# EAGLE library part STM32L010K8T6 (library Bauteile)
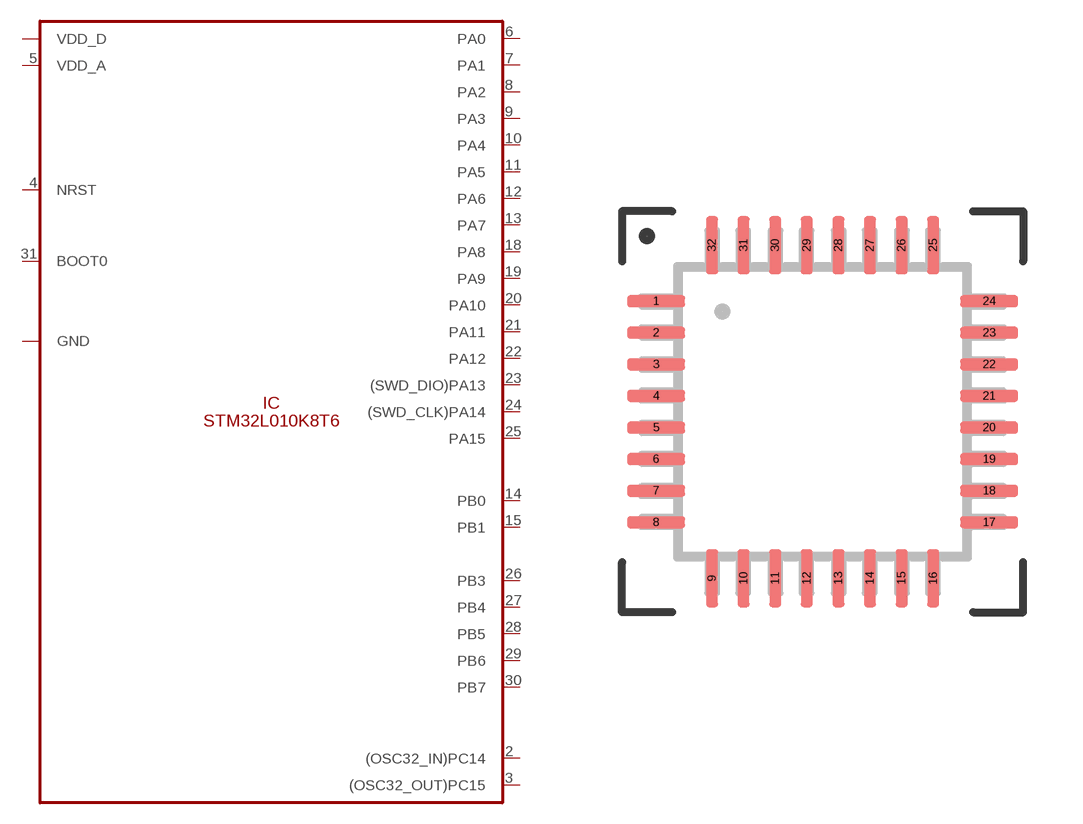
[diagram p99: symbol with the pads of LQFP32-0.8; footprint LQFP32-0.8]

Designator prefix IC

## STM32L010K8T6  [LQFP32-0.8]
1  VDD_D
2  (OSC32_IN)PC14
3  (OSC32_OUT)PC15
4  NRST
5  VDD_A
6  PA0
7  PA1
8  PA2
9  PA3
10  PA4
11  PA5
12  PA6
13  PA7
14  PB0
15  PB1
16  GND
17  VDD_D
18  PA8
19  PA9
20  PA10
21  PA11
22  PA12
23  (SWD_DIO)PA13
24  (SWD_CLK)PA14
25  PA15
26  PB3
27  PB4
28  PB5
29  PB6
30  PB7
31  BOOT0
32  GND

## Footprint LQFP32-0.8 (pad centres in mm)
smd 1.473 x 0.305: 1 -4.216,2.8; 2 -4.216,2; 3 -4.216,1.2; 4 -4.216,0.4; 5 -4.216,-0.4; 6 -4.216,-1.2; 7 -4.216,-2; 8 -4.216,-2.8; 17 4.216,-2.8; 18 4.216,-2; 19 4.216,-1.2; 20 4.216,-0.4; 21 4.216,0.4; 22 4.216,1.2; 23 4.216,2; 24 4.216,2.8
smd 0.305 x 1.473: 9 -2.8,-4.216; 10 -2,-4.216; 11 -1.2,-4.216; 12 -0.4,-4.216; 13 0.4,-4.216; 14 1.2,-4.216; 15 2,-4.216; 16 2.8,-4.216; 25 2.8,4.216; 26 2,4.216; 27 1.2,4.216; 28 0.4,4.216; 29 -0.4,4.216; 30 -1.2,4.216; 31 -2,4.216; 32 -2.8,4.216